# EAGLE library part 634108185321 (library WR-MJ)
WR-MJ Cat 3 Modular Jacks – SMT Characteristics Shieldingless and Shielded with EMI-Spring option Optional LEDs in various sequences Vertical and Horizontal orientation Tape & Reel packaging for pick-and-place assembly Properties PoE++ Compatible up to 100W (IEEE 802.3bt) UL and cULus-Certified UL94-V0 reflow-compatible insulator material Ethernet Category 3 – Category 5 under conditions Applications Networks Internet of Things Smart Buildings <https://www.we-online.com/components/media/o60696v209%20Multi-WR-MJSM-634008149821.jpg> Details see: www.we-online.com/en/components/products/WR_MJ_MODULAR_JACKS_SMT <www.we-online.com/catalog/WR_MJ_MODULAR_JACKS_SMT/?utm_source=eagle_model&utm_medium=description_link&utm_campaign=eisos_eagle> Updated by Yingchun Shan 2020-01-03 2020(C) Würth Elektronik
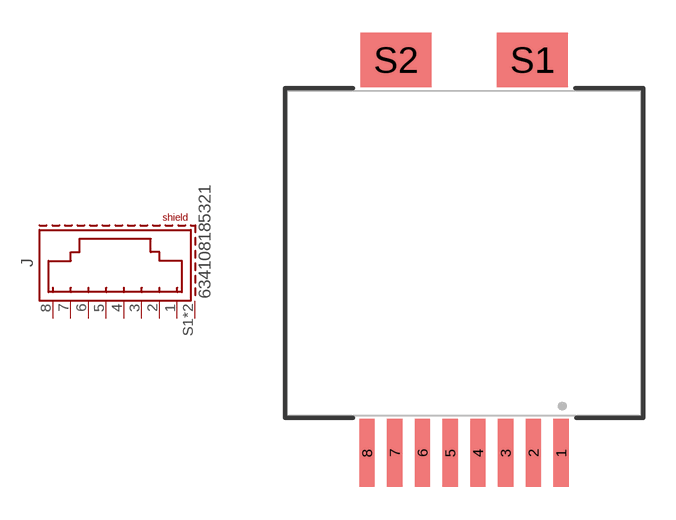
[diagram p26: symbol with the pads of 634108185321; footprint 634108185321]

Designator prefix J

## 634108185321 (APPLICATION-SYSTEM: CAT 3; DATASHEET-URL: https://www.we-online.com/redexpert/spec/634108185321?ae; EMI: No; LED: /; MOUNT: SMT; PART-NUMBER: 634108185321; SIZE: Vertical; VALUE: 634108185321; XPXC: 8P8C)  [634108185321]
1  1  pas
2  2  pas
3  3  pas
4  4  pas
5  5  pas
6  6  pas
7  7  pas
8  8  pas
S1  SHIELD  pas
S2  SHIELD  pas

## Footprint 634108185321 (pad centres in mm)
WR-MJ Modular Jack Vertical Shielded SMT w. Solder Tab 8P8C Top Entry
smd 0.7 x 3.1: 1 4.445,-9.15; 2 3.175,-9.15; 3 1.905,-9.15; 4 0.635,-9.15; 5 -0.635,-9.15; 6 -1.905,-9.15; 7 -3.175,-9.15; 8 -4.445,-9.15
smd 3.25 x 2.5: S1 3.125,8.85; S2 -3.125,8.85